# Altium schematic symbol library L6234PD013TR.SchLib: 1 symbol
Pins are listed as number, name and electrical type; pins without a type are passive.

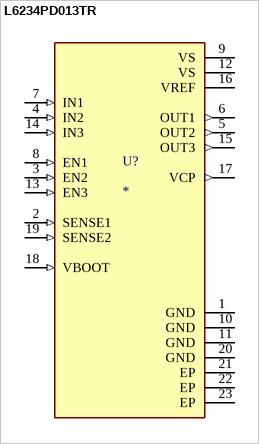
[diagram p0: symbol L6234PD013TR]

## L6234PD013TR
designator U?
3-Phase Brushless DC Motor Controller 42V Automotive 20-Pin PowerSO T/R; MF: {'manufacturer': u'STMicroelectronics'}; MP: L6234PD013TR; Price: None; Availability: Unavailable; Package: None; Value: *
footprint SOIC127P1420X360-21N
pins: 1 GND (power), 2 SENSE1 (in), 3 EN2 (in), 4 IN2 (in), 5 OUT2 (out), 6 OUT1 (out), 7 IN1 (in), 8 EN1 (in), 9 VS (power), 10 GND (power), 11 GND (power), 12 VS (power), 13 EN3 (in), 14 IN3 (in), 15 OUT3 (out), 16 VREF (power), 17 VCP (out), 18 VBOOT (in), 19 SENSE2 (in), 20 GND (power), 21 EP (power), 22 EP (power), 23 EP (power)